# Altium schematic symbol library 100uF 100V cap TH.SchLib: 1 symbol
Pins are listed as number, name and electrical type; pins without a type are passive.

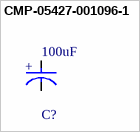
[diagram p0: symbol CMP-05427-001096-1]

## CMP-05427-001096-1
designator C?, comment 100uF
Aluminum Electrolytic Capacitors (Radial Lead Type) 100uF ±20% 100V; Lead Length: 17mm; Dielectric Material: Aluminium; Life (Hours): 10000Hour; Lead Diameter: 0.6mm; Height: 20mm; Series: FR; Voltage Rating: 100V; RoHS Compliant: Yes; Capacitance: 100uF; Lead Pitch: 5mm; Voltage Rating (DC): 100V; Termination: Radial; Voltage: 100V; Min Operating Temperature: -40°C; Diameter: 10mm; Tolerance: 20%; REACH SVHC: No SVHC; Max Operating Temperature: 105°C
footprint FP-RAD-TH-D_10_0_5-L_20_2-MFG
pins: 1 C, 2 A
text: +